# Altium schematic symbol library fastic_readout.SCHLIB: 61 symbols
Pins are listed as number, name and electrical type; pins without a type are passive.

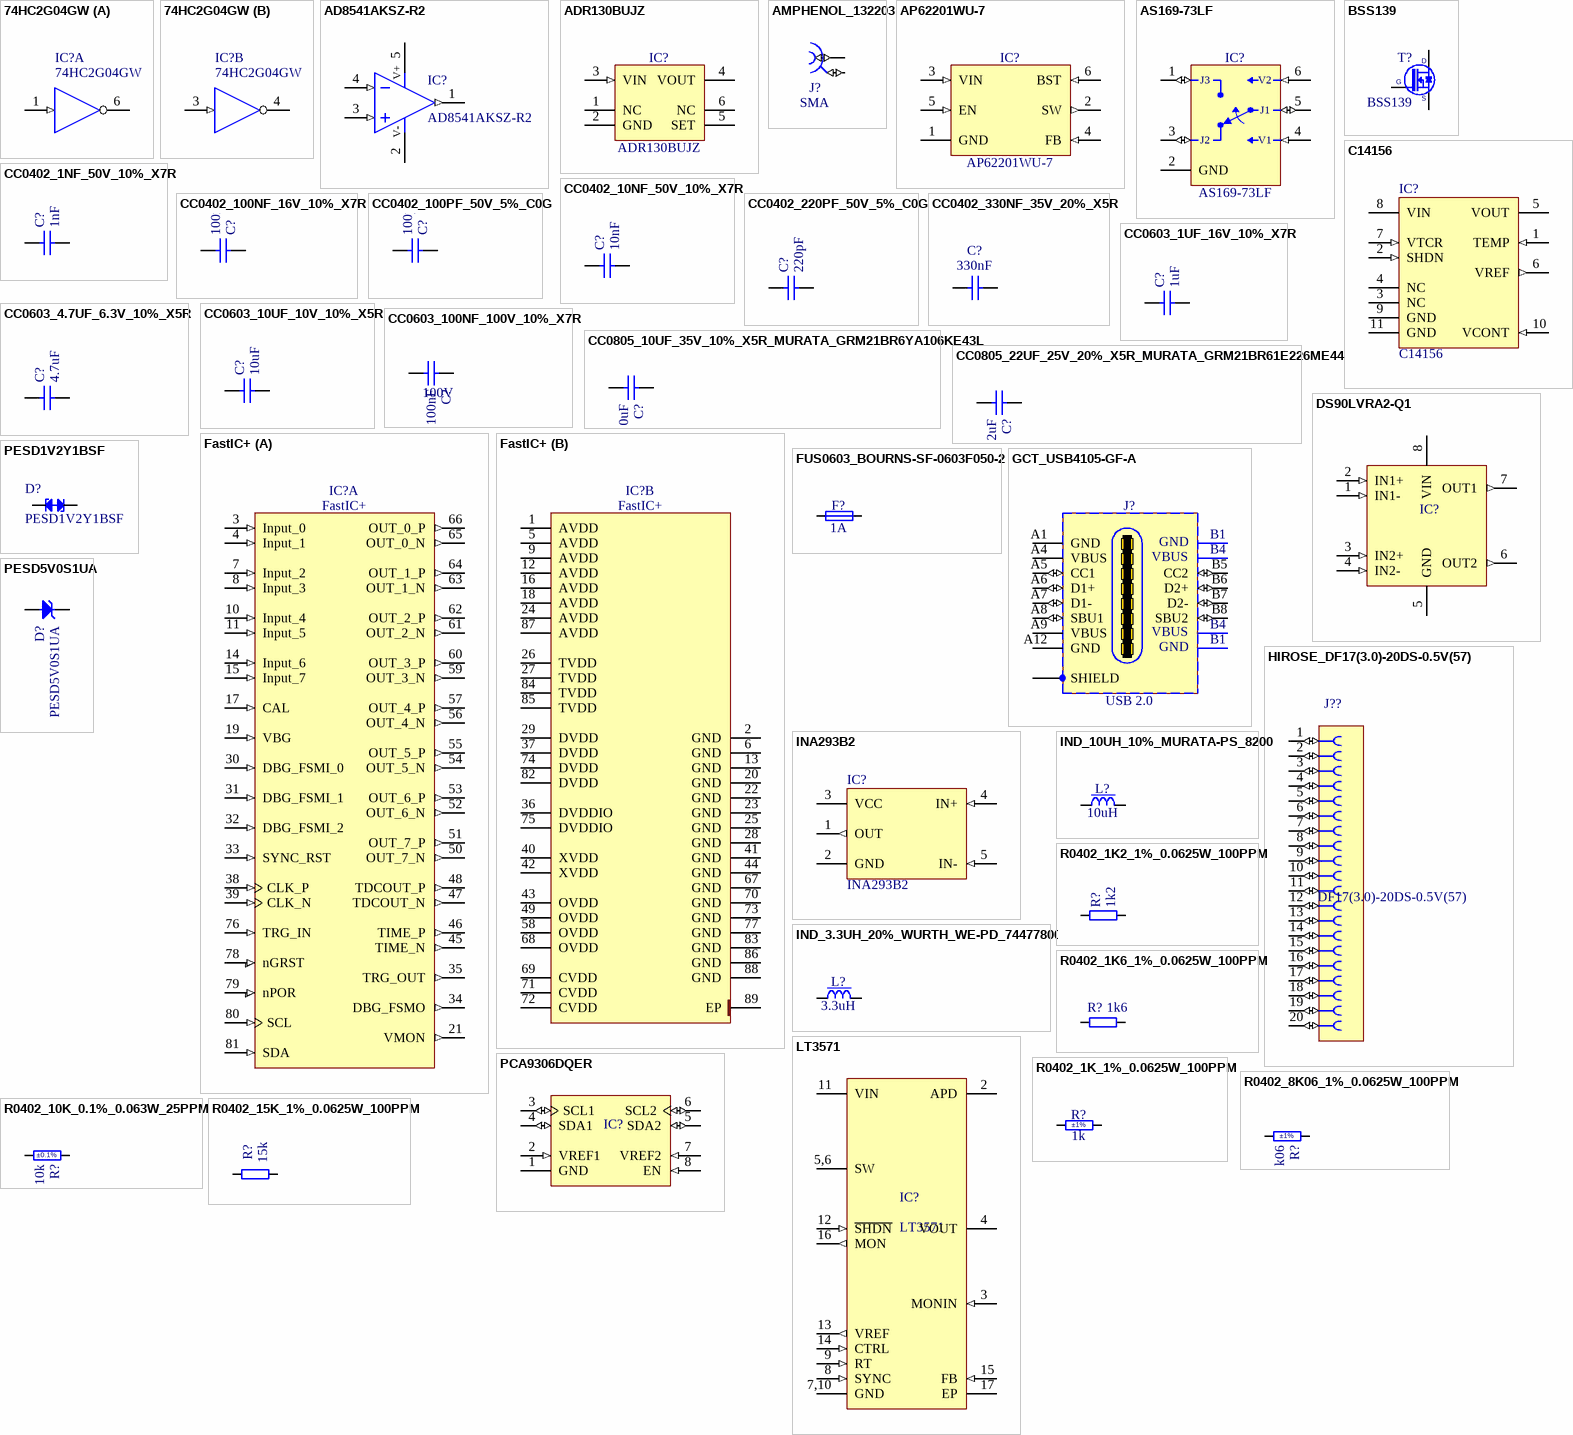
[diagram p0: symbols 74HC2G04GW to R0402_15K_1%_0.0625W_100PPM]

## 74HC2G04GW
designator IC?
Dual Inverter Buffer; Part Description: Dual inverter Gate; Manufacturer: NEXPERIA; PressFit: No; Bonding: No; Part Number: 74HC2G04GW; Component Kind: Standard; Component Type: Standard; Device: 74HC2G04GW; Footprint: SOT65P210X110-6N; PackageDescription: SOT363, SC-88, 0.65mm Pitch; 6 Pin, 1.25mm W X 2.00mm L X 1.10mm H body, IPC Medium Density; Manufacturer Part Number: 74HC2G04GW; Pin Count: 6; Case: SOT363; Mounted: Yes; Socket: No; SMD: Yes; Sense: No; ComponentHeight: 1.1mm; Author: CERN DEM HF; HelpURL: \\cern.ch\dfs\Applications\Altium\Datasheets\74HC2G04.pdf; CreateDate: 7/29/2022; LatestRevisionDate: 7/29/2022
footprint SOT65P210X110-6N
pins on every part: 2 GND (power) hidden to GND, 5 VCC (power) hidden to VCC
part A pins: 1 IN (in), 6 OUT (oc)
part B pins: 3 IN (in), 4 OUT (oc)

## AD8541AKSZ-R2
designator IC?
Operational Amplifier; Part Description: CMOS Rail-to-Rail General-Purpose Amplifier; Manufacturer: ANALOG DEVICES; PressFit: No; Bonding: No; Part Number: AD8541AKSZ-R2; Component Kind: Standard; Component Type: Standard; Device: AD8541AKSZ-R2; Footprint: SOT65P210X110-5N; PackageDescription: SOT353, SC70-5, SOT, 0.65mm Pitch; 5 Pin, 1.25mm W X 2.00mm L X 1.10mm H body, IPC Medium Density; Manufacturer Part Number: AD8541AKS; Pin Count: 5; Case: SOT353; Mounted: Yes; Socket: No; SMD: Yes; Sense: No; ComponentHeight: 1.1mm; Author: CERN DEM JLC; HelpURL: \\cern.ch\dfs\Applications\Altium\Datasheets\AD8541AKSZ-R2.pdf; CreateDate: 4/25/2012; LatestRevisionDate: 3/29/2022
footprint SOT65P210X110-5N
pins: 1 OUT (out), 2 V- (power), 3 IN+ (in), 4 IN- (in), 5 V+ (power)
1 alternate drawing of the same symbol

## ADR130BUJZ
designator IC?
±25ppm/°C, Precision Series Sub-Band Gap Voltage Reference; Part Description: 0.35% Accuracy, ±25ppm/°C, Precision Series Sub-Band Gap Voltage Reference; Manufacturer: ANALOG DEVICES; PressFit: No; Bonding: No; Part Number: ADR130BUJZ; Component Kind: Standard; Component Type: Standard; Device: ADR130BUJZ; Footprint: SOT95P280X100-6N; PackageDescription: SOT23, 0.95mm Pitch; 6 Pin, 1.625mm W X 2.90mm L X 1.00mm H body, IPC Medium Density; Manufacturer Part Number: ADR130BUJ; Pin Count: 6; Case: SOT23-6; Mounted: Yes; Socket: No; SMD: Yes; Sense: No; ComponentHeight: 1mm; HelpURL: \\cern.ch\dfs\Applications\Altium\Datasheets\ADR130BUJZ.pdf; Author: CERN DEM JLC; CreateDate: 28/10/2013; LatestRevisionDate: 04/04/2022
footprint SOT95P280X100-6N
pins: 1 NC, 2 GND (power), 3 VIN (in), 4 VOUT (power), 5 SET, 6 NC

## AMPHENOL_132203
designator J?, comment SMA
Part Number: AMPHENOL_132203; Part Description: 50 Ohms SMA Through Hole Right Angle PCB Jack; Manufacturer: AMPHENOL; Manufacturer Part Number: 132203; PressFit: No; Component Kind: Standard; Component Type: Standard; Footprint: AMPHENOL_132203; Pin Count: 5; Family: SMA; Mounted: Yes; Socket: No; SMD: No; Sense: No; Status: None; ComponentHeight: 10.44mm; HelpURL: \\cern.ch\dfs\Applications\Altium\Datasheets\AMPHENOL_132203.pdf; Author: CERN DEM MR; CreateDate: 10/6/2016; LatestRevisionDate: 10/6/2016
footprint AMPHENOL_132203
pins: 1 (io), 2 (io)

## AP62201WU-7
designator IC?
4.2V TO 18V INPUT, 2A LOW IQ SYNCHRONOUS BUCK CONVERTER; Manufacturer: DIODES INCORPORATED; PressFit: No; Bonding: No; Part Number: AP62201WU-7; Component Kind: Standard; Component Type: Standard; Device: AP62201WU-7; Footprint: SOT95P280X100-6N; PackageDescription: SOT23, 0.95mm Pitch; 6 Pin, 1.625mm W X 2.90mm L X 1.00mm H body, IPC Medium Density; Part Description: 4.2V To 18V Input, 2A Low Iq Synchronous Buck Converter; Manufacturer Part Number: AP62201WU; Pin Count: 6; Case: SOT23-6; Mounted: Yes; Socket: No; SMD: Yes; Sense: No; ComponentHeight: 1.1mm; HelpURL: \\cern.ch\dfs\Applications\Altium\Datasheets\AP6220x.pdf; Author: CERN DEM HF; CreateDate: 1/7/2022; LatestRevisionDate: 3/21/2022
footprint SOT95P2d80X100-6N
pins: 1 GND (power), 2 SW (out), 3 VIN (in), 4 FB (in), 5 EN (in), 6 BST (in)

## AS169-73LF
designator IC?
PHEMT GaAs IC SPDT Switch 300 KHz-2.5 GHz; Part Description: PHEMT GaAs IC SPDT Switch 300 KHz–2.5 GHz; Manufacturer: SKYWORKS; PressFit: No; Bonding: No; Part Number: AS169-73LF; Component Kind: Standard; Component Type: Standard; Device: AS169-73LF; Footprint: SOT95P270X145-6N; PackageDescription: SOT, 0.95mm Pitch; 6 Pin,1.55mm W X 2.90mm L X 1.45mm H body, IPC Medium Density; Manufacturer Part Number: AS169-73LF; Pin Count: 6; Case: SOT23-6; Mounted: Yes; Socket: No; SMD: Yes; Sense: No; ComponentHeight: 1.45mm; Author: CERN DEM BC; HelpURL: \\cern.ch\dfs\Applications\Altium\Datasheets\AS169-73LF.pdf; CreateDate: 15/09/2020; LatestRevisionDate: 15/09/2020
footprint SOT95P270X145-6N
pins: 1 J3 (io), 2 GND (power), 3 J2 (io), 4 V1 (in), 5 J1 (io), 6 V2 (in)

## BSS139
designator T?
N-CHANNEL MOSFET WITH DIODE; Part Description: 250V, 30mA N-Channel  SIPMOS® Small-Signal-Transistor; Manufacturer: INFINEON; PressFit: No; Bonding: No; Part Number: BSS139; Component Kind: Standard; Component Type: Standard; Device: BSS139; Footprint: SOT95P240X110-3N; PackageDescription: SOT23, 0.95mm Pitch; 3 Pin, 1.40mm W X 3.00mm L X 1.10mm H body, IPC Medium Density; Manufacturer Part Number: BSS139; Pin Count: 3; Case: SOT23-3; Mounted: Yes; Socket: No; SMD: Yes; Sense: No; ComponentHeight: 1.1mm; HelpURL: \\cern.ch\dfs\Applications\Altium\Datasheets\BSS139.pdf; Author: CERN DEM JLC; CreateDate: 9/23/2014; LatestRevisionDate: 9/23/2014
footprint SOT95P240X110-3N
pins: 1 G, 2 S, 3 D

## C14156
designator IC?  (no BOM)
pins: 1 TEMP (in), 2 SHDN (in), 3 NC (hiz), 4 NC (hiz), 5 VOUT (power), 6 VREF (out), 7 VTCR (in), 8 VIN (power), 9 GND (power), 10 VCONT (in), 11 GND (power)

## CC0402_1NF_50V_10%_X7R
designator C?, comment 1nF
Non-polarised capacitor; Part Number: CC0402_1NF_50V_10%_X7R; Part Description: SMD Multilayer Chip Ceramic Capacitor; Manufacturer: GENERIC; Manufacturer1 Part Number: 223858715623; Voltage: 50V; TC: X7R; Tolerance: ±10%; Component Kind: Standard; Component Type: Standard; Footprint: CAPC1005X55N; Pin Count: 2; Value: 1nF; Status: Not Recommended; Manufacturer Part Number: CC0402_1NF_50V_10%_X7R; Case: 0402; Mounted: Yes; Socket: No; SMD: Yes; Sense: No; Manufacturer1 Example: PHYCOMP; Manufacturer1 ComponentHeight: 0.55mm; HelpURL: \\cern.ch\dfs\Applications\Altium\Datasheets\CC0402_X7R_PHYCOMP.pdf; Author: CERN DEM JLC; CreateDate: 03/12/2007; LatestRevisionDate: 03/12/2007
footprint CAPC1005X55N
pins: 1, 2

## CC0402_10NF_50V_10%_X7R
designator C?, comment 10nF
Non-polarised capacitor; Part Number: CC0402_10NF_50V_10%_X7R; Part Description: SMD Multilayer Chip Ceramic Capacitor; Manufacturer: GENERIC; Manufacturer1 Part Number: GRM155R71H103KA88D; Voltage: 50V; TC: X7R; Tolerance: ±10%; Component Kind: Standard; Component Type: Standard; Footprint: CAPC1005X55N; Pin Count: 2; Value: 10nF; Status: None; Manufacturer Part Number: CC0402_10NF_50V_10%_X7R; Case: 0402; Mounted: Yes; Socket: No; SMD: Yes; Sense: No; Manufacturer1 Example: MURATA; Manufacturer1 ComponentHeight: 0.55mm; HelpURL: \\cern.ch\dfs\Applications\Altium\Datasheets\CC0402_X7R_MURATA_GRM.pdf; Author: CERN DEM MR; CreateDate: 08/01/2016; LatestRevisionDate: 08/01/2016
footprint CAPC1005X55N
pins: 1, 2

## CC0402_100NF_16V_10%_X7R
designator C?, comment 100nF
Non-polarised capacitor; Part Number: CC0402_100NF_16V_10%_X7R; Part Description: SMD Multilayer Chip Ceramic Capacitor; Manufacturer: GENERIC; Manufacturer1 Part Number: GRM155R71C104KA88D; Voltage: 16V; TC: X7R; Tolerance: ±10%; Component Kind: Standard; Component Type: Standard; Footprint: CAPC1005X55N; Pin Count: 2; Value: 100nF; Status: Not Recommended; Manufacturer Part Number: CC0402_100NF_16V_10%_X7R; Case: 0402; Mounted: Yes; Socket: No; SMD: Yes; Sense: No; Manufacturer1 Example: MURATA; Manufacturer1 ComponentHeight: 0.55mm; HelpURL: \\cern.ch\dfs\Applications\Altium\Datasheets\CC0402_X7R_MURATA_GRM.pdf; Author: CERN DEM JLC; CreateDate: 05/12/2013; LatestRevisionDate: 03/12/2007
footprint CAPC1005X55N
pins: 1, 2

## CC0402_100PF_50V_5%_C0G
designator C?, comment 100pF
Non-polarised capacitor; Part Number: CC0402_100PF_50V_5%_C0G; Part Description: SMD Multilayer Chip Ceramic Capacitor; Manufacturer: GENERIC; Manufacturer1 Part Number: C0402C101J5GACTU; Voltage: 50V; TC: C0G/NP0; Tolerance: ±5%; Component Kind: Standard; Component Type: Standard; Footprint: CAPC1005X55N; Pin Count: 2; Value: 100pF; Status: Preferred; Manufacturer Part Number: CC0402_100PF_50V_5%_C0G; Case: 0402; Mounted: Yes; Socket: No; SMD: Yes; Sense: No; Manufacturer1 Example: KEMET; Manufacturer1 ComponentHeight: 0.55mm; HelpURL: \\cern.ch\dfs\Applications\Altium\Datasheets\CC0402_C0G_KEMET_(Commercial Grade).pdf; Author: CERN DEM JLC; CreateDate: 12/3/2007; LatestRevisionDate: 4/22/2015
footprint CAPC1005X55N
pins: 1, 2

## CC0402_220PF_50V_5%_C0G
designator C?, comment 220pF
Non-polarised capacitor; Part Number: CC0402_220PF_50V_5%_C0G; Part Description: SMD Multilayer Chip Ceramic Capacitor; Manufacturer: GENERIC; Manufacturer1 Part Number: C0402C221J5GACTU; Voltage: 50V; TC: C0G/NP0; Tolerance: ±5%; Component Kind: Standard; Component Type: Standard; Footprint: CAPC1005X55N; Pin Count: 2; Value: 220pF; Status: Preferred; Manufacturer Part Number: CC0402_220PF_50V_5%_C0G; Case: 0402; Mounted: Yes; Socket: No; SMD: Yes; Sense: No; Manufacturer1 Example: KEMET; Manufacturer1 ComponentHeight: 0.55mm; HelpURL: \\cern.ch\dfs\Applications\Altium\Datasheets\CC0402_C0G_KEMET_(Commercial Grade).pdf; Author: CERN DEM JLC; CreateDate: 03/12/2007; LatestRevisionDate: 22/04/2015
footprint CAPC1005X55N
pins: 1, 2

## CC0402_330NF_35V_20%_X5R
designator C?, comment 330nF
Non-polarised capacitor; Part Number: CC0402_330NF_35V_20%_X5R; Part Description: SMD Multilayer Chip Ceramic Capacitor; Manufacturer: GENERIC; Manufacturer1 Part Number: C1005X5R1V334M050; Voltage: 35V; TC: X5R; Tolerance: ±20%; Component Kind: Standard; Component Type: Standard; Footprint: CAPC1005X55N; Pin Count: 2; Value: 330nF; Status: Preferred; Manufacturer Part Number: CC0402_330NF_35V_20%_X5R; Case: 0402; Mounted: Yes; Socket: No; SMD: Yes; Sense: No; Manufacturer1 Example: TDK; Manufacturer1 ComponentHeight: 0.55mm; HelpURL: \\cern.ch\dfs\Applications\Altium\Datasheets\CC0402_X5R_TDK_C.pdf; Author: CERN DEM MR; CreateDate: 9/13/2016; LatestRevisionDate: 9/13/2016
footprint CAPC1005X55N
pins: 1, 2

## CC0603_1UF_16V_10%_X7R
designator C?, comment 1uF
Non-polarised capacitor; Part Number: CC0603_1UF_16V_10%_X7R; Part Description: SMD Multilayer Chip Ceramic Capacitor; Manufacturer: GENERIC; Manufacturer1 Part Number: 223878615663; Voltage: 16V; TC: X7R; Tolerance: ±10%; Component Kind: Standard; Component Type: Standard; Footprint: CAPC1608X87N; Pin Count: 2; Value: 1uF; Status: None; Manufacturer Part Number: CC0603_1UF_16V_10%_X7R; Case: 0603; Mounted: Yes; Socket: No; SMD: Yes; Sense: No; Manufacturer1 Example: YAGEO PHYCOMP; Manufacturer1 ComponentHeight: 0.9mm; HelpURL: \\cern.ch\dfs\Applications\Altium\Datasheets\CC0603_X7R_PHYCOMP.pdf; Author: CERN DEM JLC; CreateDate: 03/12/2007; LatestRevisionDate: 17/04/2015
footprint CAPC1608X87N
pins: 1, 2

## CC0603_4.7UF_6.3V_10%_X5R
designator C?, comment 4.7uF
Non-polarised capacitor; Part Number: CC0603_4.7UF_6.3V_10%_X5R; Part Description: SMD Multilayer Chip Ceramic Capacitor; Manufacturer: GENERIC; Manufacturer1 Part Number: 225520613672; Voltage: 6.3V; TC: X5R; Tolerance: ±10%; Component Kind: Standard; Component Type: Standard; Footprint: CAPC1608X87N; Pin Count: 2; Value: 4.7uF; Status: Preferred; Manufacturer Part Number: CC0603_4.7UF_6.3V_10%_X5R; Case: 0603; Mounted: Yes; Socket: No; SMD: Yes; Sense: No; Manufacturer1 Example: PHYCOMP; Manufacturer1 ComponentHeight: 0.87mm; HelpURL: \\cern.ch\dfs\Applications\Altium\Datasheets\CC0805_X5R_PHYCOMP_HC.pdf; Author: CERN DEM JLC; CreateDate: 03/12/2007; LatestRevisionDate: 03/12/2007
footprint CAPC1608X87N
pins: 1, 2

## CC0603_10UF_10V_10%_X5R
designator C?, comment 10uF
Non-polarised capacitor; Part Number: CC0603_10UF_10V_10%_X5R; Part Description: SMD Multilayer Chip Ceramic Capacitor; Manufacturer: GENERIC; Manufacturer1 Part Number: GRM188R61A106KE69D; Voltage: 10V; TC: X5R; Tolerance: ±10%; Component Kind: Standard; Component Type: Standard; Footprint: CAPC1608X80N; Pin Count: 2; Value: 10uF; Status: None; Manufacturer Part Number: CC0603_10UF_10V_10%_X5R; Case: 0603; Mounted: Yes; Socket: No; SMD: Yes; Sense: No; Manufacturer1 Example: MURATA; Manufacturer1 ComponentHeight: 0.8mm; HelpURL: \\cern.ch\dfs\Applications\Altium\Datasheets\CC0603_MURATA_GRM188R61A106KE69D.pdf; Author: CERN DEM JLC; CreateDate: 31/01/2017; LatestRevisionDate: 31/01/2017
footprint CAPC1608X80N
pins: 1, 2

## CC0603_100NF_100V_10%_X7R
designator C?, comment 100nF  Voltage: 100V
Non-polarised capacitor; Part Number: CC0603_100NF_100V_10%_X7R; Part Description: SMD Multilayer Chip Ceramic Capacitor; Manufacturer: GENERIC; Manufacturer1 Part Number: GRM188R72A104KA35D; TC: X7R; Tolerance: ±10%; Component Kind: Standard; Component Type: Standard; Footprint: CAPC1608X90N; Pin Count: 2; Value: 100nF; Status: None; Manufacturer Part Number: CC0603_100NF_100V_10%_X7R; Case: 0603; Mounted: Yes; Socket: No; SMD: Yes; Sense: No; Manufacturer1 Example: MURATA; Manufacturer1 ComponentHeight: 0.9mm; HelpURL: \\cern.ch\dfs\Applications\Altium\Datasheets\CC0603_MURATA_GRM188R72A104KA35D.pdf; Author: CERN DEM JLC; CreateDate: 11/12/2013; LatestRevisionDate: 11/12/2013
footprint CAPC1608X90N
pins: 1, 2

## CC0805_10UF_35V_10%_X5R_MURATA_GRM21BR6YA106KE43L
designator C?, comment 10uF
Non-polarised capacitor; Part Number: CC0805_10UF_35V_10%_X5R_MURATA_GRM21BR6YA106KE43L; Part Description: Chip Multilayer Ceramic Capacitor for General Purpose; Manufacturer: MURATA; Manufacturer Part Number: GRM21BR6YA106KE43; Voltage: 35V; TC: X5R; Tolerance: ±10%; Component Kind: Standard; Component Type: Standard; Footprint: CAPC2012X145N; Pin Count: 2; Value: 10uF; Status: Not Recommended; Case: 0805; Mounted: Yes; Socket: No; SMD: Yes; Sense: No; ComponentHeight: 1.45mm; HelpURL: \\cern.ch\dfs\Applications\Altium\Datasheets\CC0805_MURATA_GRM21BR6YA106KE43L.pdf; Author: CERN DEM BC; CreateDate: 3/24/2020; LatestRevisionDate: 3/24/2020
footprint CAPC2012X145N
pins: 1, 2

## CC0805_22UF_25V_20%_X5R_MURATA_GRM21BR61E226ME44
designator C?, comment 22uF
Non-polarised capacitor; Part Number: CC0805_22UF_25V_20%_X5R_MURATA_GRM21BR61E226ME44; Part Description: Chip Multilayer Ceramic Capacitor for General Purpose; Manufacturer: MURATA; Manufacturer Part Number: GRM21BR61E226ME44; Voltage: 25V; TC: X5R; Tolerance: ±20%; Component Kind: Standard; Component Type: Standard; Footprint: CAPC2013X145N; Pin Count: 2; Value: 22uF; Status: Not Recommended; Case: 0805; Mounted: Yes; Socket: No; SMD: Yes; Sense: No; ComponentHeight: 1.45mm; HelpURL: \\cern.ch\dfs\Applications\Altium\Datasheets\CC0805_MURATA_GRM21BR61E226ME44.pdf; Author: CERN DEM BC; CreateDate: 10/6/2020; LatestRevisionDate: 10/6/2020
footprint CAPC2013X145N
pins: 1, 2

## DS90LVRA2-Q1
designator IC?
footprint DS90LVRA2-Q1
pins: 1 IN1- (in), 2 IN1+ (in), 3 IN2+ (in), 4 IN2- (in), 5 GND (power), 6 OUT2 (out), 7 OUT1 (out), 8 VIN (power)

## FastIC+
designator IC?
Part Description: FastIC+ ASIC. Fast Integrated Circuit for  Readout of High-Performance Detectors with Embedded TDC; Manufacturer: CERN; PressFit: No; Bonding: No; Part Number: FastIC+; Component Kind: Standard; Component Type: Standard; Device: FastIC+; Footprint: QFN40P1000X1000X85-89N-S760; PackageDescription: QFN, 0.40mm Pitch, Square; 89 Pin, 10.00mm L X 10.00mm W X 0.85mm H body (w/Thermal Tab 7.6 X 7.60mm), IPC Medium Density; Manufacturer Part Number: FastIC+; Pin Count: 89; Case: QFN89; Mounted: Yes; Socket: No; SMD: Yes; Sense: No; ComponentHeight: 0.85mm; Author: CERN DEM HF; HelpURL: \\cern.ch\dfs\Applications\Altium\Datasheets\FastIC+.pdf; ComponentLink1URL: \\cern.ch\dfs\Applications\Altium\Datasheets\FastIC+_Package.pdf; ComponentLink1Description: Package Drawing; CreateDate: 14/12/2023; LatestRevisionDate: 14/12/2023
footprint QFN40P1000X1000X85-89N-S760
part A pins: 3 Input_0 (in), 4 Input_1 (in), 7 Input_2 (in), 8 Input_3 (in), 10 Input_4 (in), 11 Input_5 (in), 14 Input_6 (in), 15 Input_7 (in), 17 CAL (in), 19 VBG (in), 21 VMON (out), 30 DBG_FSMI_0 (in), 31 DBG_FSMI_1 (in), 32 DBG_FSMI_2 (in), 33 SYNC_RST (in), 34 DBG_FSMO (out), 35 TRG_OUT (out), 38 CLK_P (in), 39 CLK_N (in), 45 TIME_N (out), 46 TIME_P (out), 47 TDCOUT_N (out), 48 TDCOUT_P (out), 50 OUT_7_N (out), 51 OUT_7_P (out), 52 OUT_6_N (out), 53 OUT_6_P (out), 54 OUT_5_N (out), 55 OUT_5_P (out), 56 OUT_4_N (out), 57 OUT_4_P (out), 59 OUT_3_N (out), 60 OUT_3_P (out), 61 OUT_2_N (out), 62 OUT_2_P (out), 63 OUT_1_N (out), 64 OUT_1_P (out), 65 OUT_0_N (out), 66 OUT_0_P (out), 76 TRG_IN (in), 78 nGRST (in), 79 nPOR (in), 80 SCL (in), 81 SDA (in)
part B pins: 1 AVDD (power), 2 GND (power), 5 AVDD (power), 6 GND (power), 9 AVDD (power), 12 AVDD (power), 13 GND (power), 16 AVDD (power), 18 AVDD (power), 20 GND (power), 22 GND (power), 23 GND (power), 24 AVDD (power), 25 GND (power), 26 TVDD (power), 27 TVDD (power), 28 GND (power), 29 DVDD (power), 36 DVDDIO (power), 37 DVDD (power), 40 XVDD (power), 41 GND (power), 42 XVDD (power), 43 OVDD (power), 44 GND (power), 49 OVDD (power), 58 OVDD (power), 67 GND (power), 68 OVDD (power), 69 CVDD (power), 70 GND (power), 71 CVDD (power), 72 CVDD (power), 73 GND (power), 74 DVDD (power), 75 DVDDIO (power), 77 GND (power), 82 DVDD (power), 83 GND (power), 84 TVDD (power), 85 TVDD (power), 86 GND (power), 87 AVDD (power), 88 GND (power), 89 EP (power)

## FUS0603_BOURNS-SF-0603F050-2
designator F?, comment 1A
Fuse; Part Number: FUS0603_BOURNS-SF-0603F050-2; Part Description: Fast Acting Thin Film Chip Fuse for Overcurrent Protection, SinglFuse™ SF-0603F  Series; Manufacturer: BOURNS; Manufacturer Part Number: SF-0603F050-2; PressFit: No; Value: 500mA-50V; Component Kind: Standard; Component Type: Standard; Footprint: FUSC_BOURNS_SF-0603F; Pin Count: 2; Case: 0603; PackageDescription: Chip Fuse, 2-Leads, Body 1.6mm x 0.8mm, IPC Medium Density; Family: Fuse; Mounted: Yes; Socket: No; SMD: Yes; Sense: No; ComponentHeight: 0.55mm; HelpURL: \\cern.ch\dfs\Applications\Altium\Datasheets\FUSC_BOURNS_SF-0603F.pdf; Author: CERN DEM JLC; CreateDate: 2/1/2017; LatestRevisionDate: 2/1/2017
footprint FUSC_BOURNS_SF-0603F
pins: 1, 2

## GCT_USB4105-GF-A
designator J?, comment USB 2.0
2x8 Pin + 1 Shield  USB Type C Receptacle; Part Number: GCT_USB4105-GF-A; Part Description: USB 2.0 Type C Receptacle 16 Contacts, SMD, horizontal; Manufacturer: GCT; Manufacturer Part Number: USB4105-GF-A; PressFit: No; Component Kind: Standard; Component Type: Standard; Footprint: GCT_USB4105-GF-A; Pin Count: 20; Family: USB 2.0; Mounted: Yes; Socket: No; SMD: Yes; Sense: No; Status: None; ComponentHeight: 3.31mm; HelpURL: \\cern.ch\dfs\Applications\Altium\Datasheets\GCT_USB4105-GF-A.pdf; Author: CERN DEM HF; CreateDate: 10/12/2023; LatestRevisionDate: 10/12/2023
footprint GCT_USB4105-GF-A
pins: A1 GND (power), A4 VBUS (power), A5 CC1 (io), A6 D1+ (io), A7 D1- (io), A8 SBU1 (io), A9 VBUS (power), A12 GND (power), B5 CC2 (io), B6 D2+ (io), B7 D2- (io), B8 SBU2 (io), SHIELD (power)
text: B1; B4

## HIROSE_DF17(3.0)-20DS-0.5V(57)
designator J??, comment Manufacturer Part Number: DF17(3.0)-20DS-0.5V(57)  (hidden comment: Socket 20)
Connector 20 Female; Part Number: HIROSE_DF17(3.0)-20DS-0.5V(57); Part Description: 20 Contacts, Pitch 0.5mm, Surface Mount Board to Board Receptacle, DF17 Series; Manufacturer: HIROSE (HRS); PressFit: No; Component Kind: Standard; Component Type: Standard; Footprint: HIROSE_DF17(3.0)-20DS-0.5V; Pin Count: 20; Family: Socket 20; Mounted: Yes; Socket: No; SMD: Yes; Sense: No; Status: None; ComponentHeight: 3.65mm; HelpURL: \\cern.ch\dfs\Applications\Altium\Datasheets\HIROSE_DF17(3.0)-20DS-0.5V.pdf; ComponentLink1URL: \\cern.ch\dfs\Applications\Altium\Datasheets\HIROSE_DF17_Catalog.pdf; ComponentLink1Description: Catalog; Author: CERN DEM BC; CreateDate: 15/09/2020; LatestRevisionDate: 15/09/2020
footprint HIROSE_DF17(3.0)-20DS-0.5V
pins: 1 (io), 2 (io), 3 (io), 4 (io), 5 (io), 6 (io), 7 (io), 8 (io), 9 (io), 10 (io), 11 (io), 12 (io), 13 (io), 14 (io), 15 (io), 16 (io), 17 (io), 18 (io), 19 (io), 20 (io)
1 alternate drawing of the same symbol

## INA293B2
designator IC?
pins: 1 OUT (out), 2 GND (power), 3 VCC (power), 4 IN+ (in), 5 IN- (in)

## IND_3.3UH_20%_WURTH_WE-PD_744778003
designator L?, comment 3.3uH
Inductor With Core; Part Number: IND_3.3UH_20%_WURTH_WE-PD_744778003; Part Description: Shielded Power Inductor (WE-PD Series); Manufacturer: WURTH ELEKTRONIK; Manufacturer Part Number: 744778003; Power: 3.1A; Resistance: 0.024R; Tolerance: ±20%; Component Kind: Standard; Component Type: Standard; Footprint: IND_WURTH_WE-PD_7332(METAL); Pin Count: 2; Value: 3.3uH; Mounted: Yes; Socket: No; SMD: Yes; Sense: No; ComponentHeight: 3.4mm; HelpURL: \\cern.ch\dfs\Applications\Altium\Datasheets\IND_WURTH_WE-PD_744778003.pdf; Author: CERN DEM JLC; CreateDate: 1/21/2013; LatestRevisionDate: 1/21/2013
footprint IND_WURTH_WE-PD_7332(METAL)
pins: 1, 2

## IND_10UH_10%_MURATA-PS_8200
designator L?, comment 10uH
Inductor With Core; Part Number: IND_10UH_10%_MURATA-PS_8200; Part Description: Miniature Surface Mount Power Inductor (8200 Series); Manufacturer: MURATA POWER SOLUTIONS; Manufacturer Part Number: 82103C; Power: 500mA; Resistance: 0.4R; Tolerance: ±10%; Component Kind: Standard; Component Type: Standard; Footprint: IND_MURATA-PS_8200; Pin Count: 2; Value: 10uH; Mounted: Yes; Socket: No; SMD: Yes; Sense: No; ComponentHeight: 2.3mm; HelpURL: \\cern.ch\dfs\Applications\Altium\Datasheets\IND_MURATA-PS_8200.pdf; Author: CERN DEM JLC; CreateDate: 7/21/2014; LatestRevisionDate: 7/21/2014
footprint IND_MURATA-PS_8200
pins: 1, 2

## LT3571
designator IC?
footprint QFN50P300X300X80-17N-S145 (QFN,0.50mm Pitch, Square; 4 pin X 4 Pin, 3mm X 3mm X 0.80mm H Body (w/Thermal Tab 1.45 X 1.45mm),  IPC Medium Density); pin to pad 5,6>5+6 7,10>7+10
pins: 2 APD (power), 3 MONIN (in), 4 VOUT (power), 5,6 SW (power), 7,10 GND (power), 8 SYNC (in), 9 RT (in), 11 VIN (power), 12 ~{SHDN} (in), 13 VREF (out), 14 CTRL (in), 15 FB (in), 16 MON (out), 17 EP (power)

## PCA9306DQER
designator IC?
footprint SON35P100X140X40-8N (SON, 0.35mm pitch, 8 pin, 1.4mm X 1mm X 0.4mm H body,  IPC Medium Density)
pins: 1 GND (power) "I2C-bus SDA", 2 VREF1 (in) "Receive Signal", 3 SCL1 (io) "Transmit Signal", 4 SDA1 (io) "Negative Supply", 5 SDA2 (io) "Transmit Signal", 6 SCL2 (io) "Receive Signal", 7 VREF2 (in) "I2C-bus SCL", 8 EN (in) "Positive Supply Voltage"

## PESD1V2Y1BSF
designator D?
footprint SOD962-2
pins: 1 C, 2 C

## PESD5V0S1UA
designator D?
Transient Voltage Suppressor Diode (Uni-Directional); Part Description: Unidirectional ESD Protection for Transient Voltage Suppression; Manufacturer: NXP SEMICONDUCTORS; Voltage: 5V; Power: 890W; PressFit: No; Bonding: No; Part Number: PESD5V0S1UA; Component Kind: Standard; Component Type: Standard; Device: PESD5V0S1UA; Footprint: SOD2512X110N; PackageDescription: Small Outline Diode (SOD-323), 1.70mm W X 1.25mm L X 1.10mm H body,  IPC Medium Density; Manufacturer Part Number: PESD5V0S1UA; Pin Count: 2; Case: SOD323; Mounted: Yes; Socket: No; SMD: Yes; Sense: No; ComponentHeight: 1.1mm; HelpURL: \\cern.ch\dfs\Applications\Altium\Datasheets\PESD5V0S1UA.pdf; Author: CERN DEM JLC; CreateDate: 8/28/2012; LatestRevisionDate: 9/18/2013
footprint SOD2512X110N
pins: 1 C, 2 A

## R0402_1K2_1%_0.0625W_100PPM
designator R?, comment 1k2
Resistor - 1%; Part Number: R0402_1K2_1%_0.0625W_100PPM; Part Description: General Purpose Thick Film Chip Resistor; Manufacturer: GENERIC; Manufacturer1 Part Number: 232270671202L; Power: 0.0625W; TC: ±100ppm/°C; PressFit: No; Component Kind: Standard; Component Type: Standard; Footprint: RESC1005X40N; Pin Count: 2; Value: 1k2; Status: Not Recommended; Tolerance: ±1%; Manufacturer Part Number: R0402_1K2_1%_0.0625W_100PPM; Case: 0402; Mounted: Yes; Sense: No; Socket: No; SMD: Yes; Manufacturer1 Example: YAGEO PHYCOMP; Manufacturer1 ComponentHeight: 0.4mm; HelpURL: \\cern.ch\dfs\Applications\Altium\Datasheets\R0402_Phycomp_RC0402.pdf; Author: CERN DEM JLC; CreateDate: 03/12/2007; LatestRevisionDate: 17/10/2012
footprint RESC1005X40N
pins: 1, 2

## R0402_1K6_1%_0.0625W_100PPM
designator R?, comment 1k6
Resistor - 1%; Part Number: R0402_1K6_1%_0.0625W_100PPM; Part Description: General Purpose Thick Film Chip Resistor; Manufacturer: GENERIC; Manufacturer1 Part Number: 232270671602L; Power: 0.0625W; TC: ±100ppm/°C; PressFit: No; Component Kind: Standard; Component Type: Standard; Footprint: RESC1005X40N; Pin Count: 2; Value: 1k6; Status: Not Recommended; Tolerance: ±1%; Manufacturer Part Number: R0402_1K6_1%_0.0625W_100PPM; Case: 0402; Mounted: Yes; Sense: No; Socket: No; SMD: Yes; Manufacturer1 Example: YAGEO PHYCOMP; Manufacturer1 ComponentHeight: 0.4mm; HelpURL: \\cern.ch\dfs\Applications\Altium\Datasheets\R0402_Phycomp_RC0402.pdf; Author: CERN DEM JLC; CreateDate: 03/12/2007; LatestRevisionDate: 17/10/2012
footprint RESC1005X40N
pins: 1, 2

## R0402_1K_1%_0.0625W_100PPM
designator R?, comment 1k  Tolerance: ±1%
Resistor - 1%; Part Number: R0402_1K_1%_0.0625W_100PPM; Part Description: General Purpose Thick Film Chip Resistor; Manufacturer: GENERIC; Manufacturer1 Part Number: 232270671002L; Power: 0.0625W; TC: ±100ppm/°C; PressFit: No; Component Kind: Standard; Component Type: Standard; Footprint: RESC1005X40N; Pin Count: 2; Value: 1k; Status: Not Recommended; Manufacturer Part Number: R0402_1K_1%_0.0625W_100PPM; Case: 0402; Mounted: Yes; Sense: No; Socket: No; SMD: Yes; Manufacturer1 Example: YAGEO PHYCOMP; Manufacturer1 ComponentHeight: 0.4mm; HelpURL: \\cern.ch\dfs\Applications\Altium\Datasheets\R0402_Phycomp_RC0402.pdf; Author: CERN DEM JLC; CreateDate: 12/3/2007; LatestRevisionDate: 10/17/2012
footprint RESC1005X40N
pins: 1, 2

## R0402_8K06_1%_0.0625W_100PPM
designator R?, comment 8k06  Tolerance: ±1%
Resistor - 1%; Part Number: R0402_8K06_1%_0.0625W_100PPM; Part Description: General Purpose Thick Film Chip Resistor; Manufacturer: GENERIC; Manufacturer1 Part Number: RC0402FR-078K06L; Power: 0.0625W; TC: ±100ppm/°C; PressFit: No; Component Kind: Standard; Component Type: Standard; Footprint: RESC1005X40N; Pin Count: 2; Value: 8k06; Status: Preferred; Manufacturer Part Number: R0402_8K06_1%_0.0625W_100PPM; Case: 0402; Mounted: Yes; Sense: No; Socket: No; SMD: Yes; Manufacturer1 Example: YAGEO PHYCOMP; Manufacturer1 ComponentHeight: 0.4mm; HelpURL: \\cern.ch\dfs\Applications\Altium\Datasheets\R0402_YAGEO_RC_L.pdf; Author: CERN DEM BC; CreateDate: 3/16/2021; LatestRevisionDate: 3/16/2021
footprint RESC1005X40N
pins: 1, 2

## R0402_10K_0.1%_0.063W_25PPM
designator R?, comment 10k  Tolerance: ±0.1%
Resistor - 0.1%; Part Number: R0402_10K_0.1%_0.063W_25PPM; Part Description: Thin Film Precision Resistor; Manufacturer: GENERIC; Manufacturer1 Part Number: CPF0402B10KE1; Power: 0.063W; TC: ±25ppm/°C; PressFit: No; Component Kind: Standard; Component Type: Standard; Footprint: RESC1005X35N; Pin Count: 2; Value: 10k; Status: Not Recommended; Manufacturer Part Number: R0402_10K_0.1%_0.063W_25PPM; Case: 0402; Mounted: Yes; Sense: No; Socket: No; SMD: Yes; Manufacturer1 Example: TE CONNECTIVITY; Manufacturer1 ComponentHeight: 0.35mm; HelpURL: \\cern.ch\dfs\Applications\Altium\Datasheets\R0402_TYCO_CPF.pdf; Author: CERN DEM JMW; CreateDate: 9/22/2015; LatestRevisionDate: 9/22/2015
footprint RESC1005X35N
pins: 1, 2

## R0402_15K_1%_0.0625W_100PPM
designator R?, comment 15k
Resistor - 1%; Part Number: R0402_15K_1%_0.0625W_100PPM; Part Description: General Purpose Thick Film Chip Resistor; Manufacturer: GENERIC; Manufacturer1 Part Number: CRCW040215K0FK; Power: 0.0625W; TC: ±100ppm/°C; PressFit: No; Component Kind: Standard; Component Type: Standard; Footprint: RESC1005X40N; Pin Count: 2; Value: 15k; Status: Preferred; Tolerance: ±1%; Manufacturer Part Number: R0402_15K_1%_0.0625W_100PPM; Case: 0402; Mounted: Yes; Sense: No; Socket: No; SMD: Yes; Manufacturer1 Example: VISHAY; Manufacturer1 ComponentHeight: 0.4mm; HelpURL: \\cern.ch\dfs\Applications\Altium\Datasheets\R0402_VISHAY_CRCW e3.pdf; Author: CERN DEM JMW; CreateDate: 06/07/2015; LatestRevisionDate: 06/07/2015
footprint RESC1005X40N
pins: 1, 2

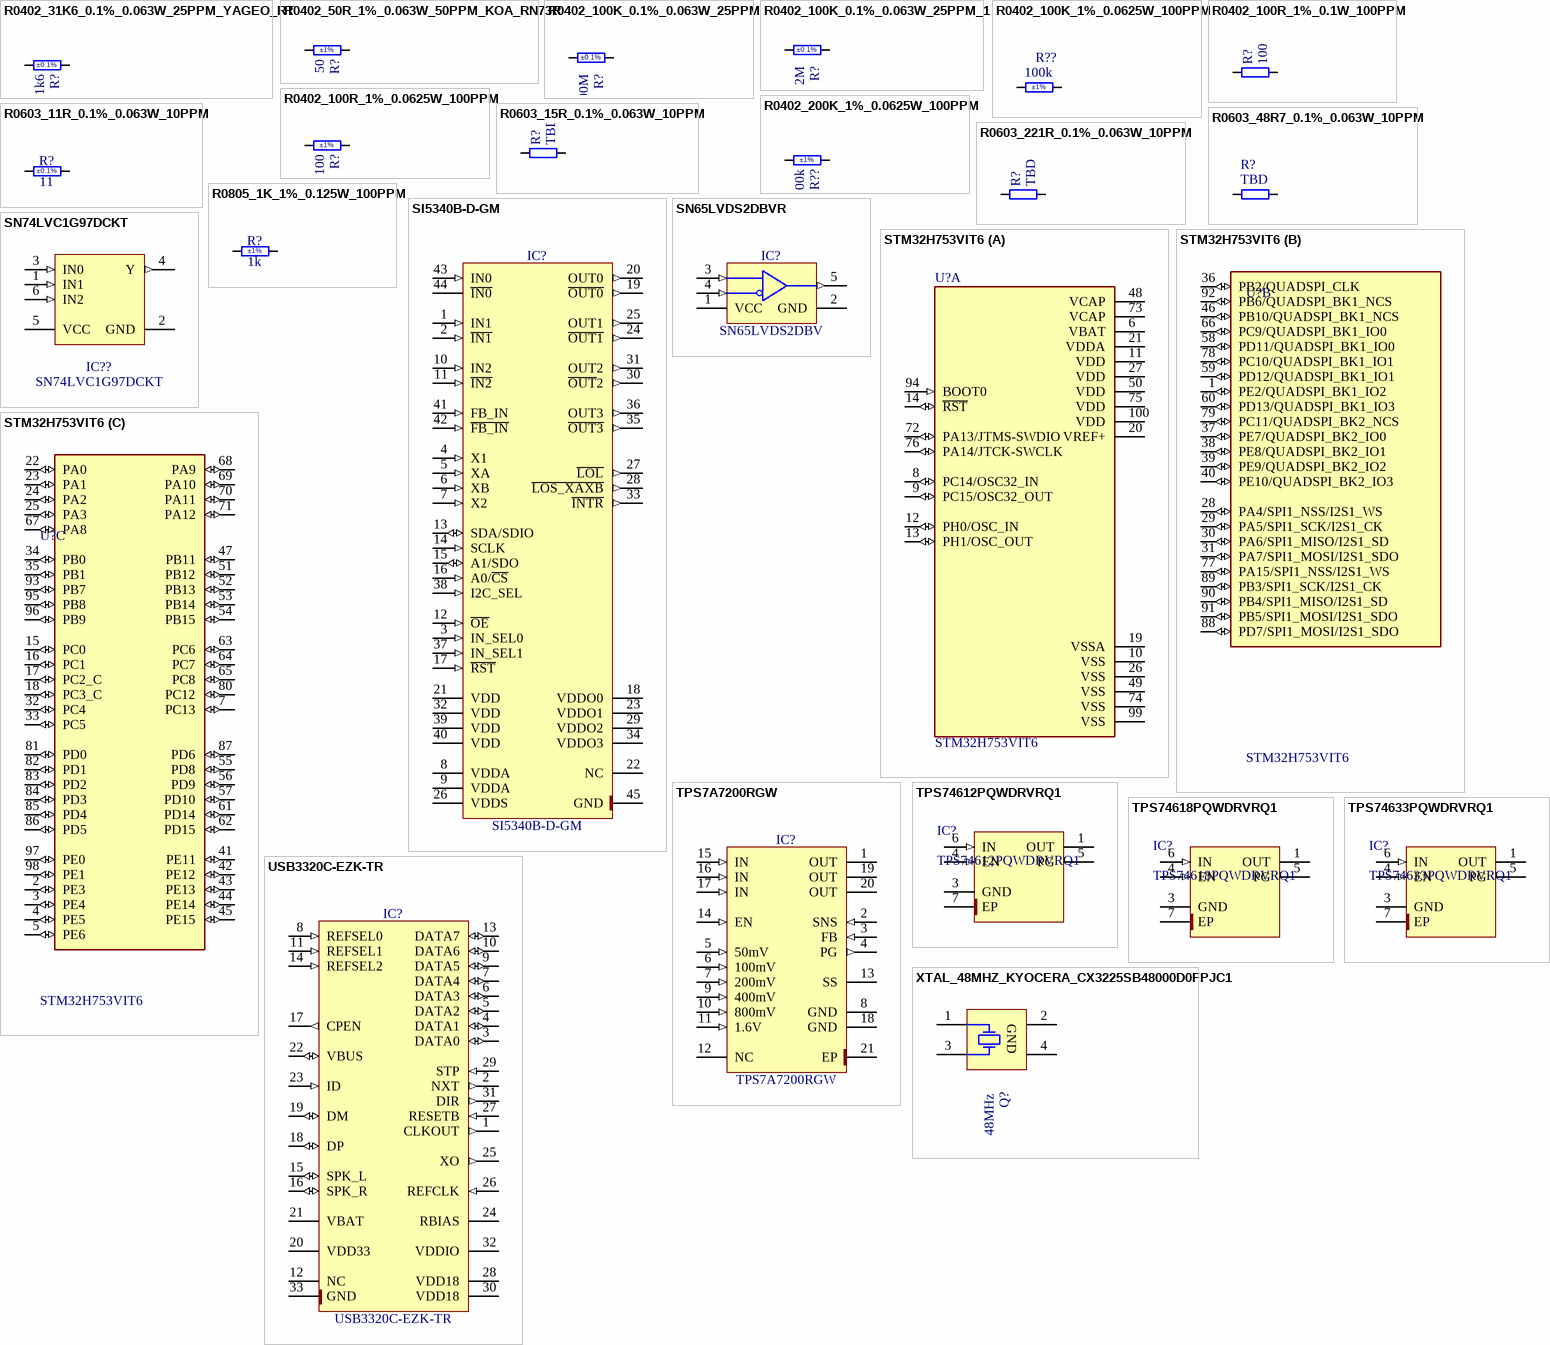
[diagram p1: symbols R0402_31K6_0.1%_0.063W_25PPM_YAGEO_RT to XTAL_48MHZ_KYOCERA_CX3225SB48000D0FPJC1]

## R0402_31K6_0.1%_0.063W_25PPM_YAGEO_RT
designator R?, comment 31k6  Tolerance: ±0.1%
Resistor - 0.1%; Part Number: R0402_31K6_0.1%_0.063W_25PPM_YAGEO_RT; Part Description: Thin Film Chip Resistor; Manufacturer: YAGEO; Manufacturer Part Number: RT0402BRD0731K6L; Power: 0.063W; TC: ±25ppm/°C; Voltage: 50V; PressFit: No; Component Kind: Standard; Component Type: Standard; Footprint: RESC1005X35N; Pin Count: 2; Value: 31k6; Status: Not Recommended; Case: 0402; Mounted: Yes; Sense: No; Socket: No; SMD: Yes; ComponentHeight: 0.35mm; HelpURL: \\cern.ch\dfs\Applications\Altium\Datasheets\R0402_YAGEO_RT.pdf; Author: CERN DEM BC; CreateDate: 7/30/2020; LatestRevisionDate: 7/30/2020
footprint RESC1005X35N
pins: 1, 2

## R0402_50R_1%_0.063W_50PPM_KOA_RN73R
designator R?, comment 50  Tolerance: ±1%
Resistor - 1%; Part Number: R0402_50R_1%_0.063W_50PPM_KOA_RN73R; Part Description: Precision Thin (Metal) Film Flat Chip Resistor; Manufacturer: KOA; Manufacturer Part Number: RN73R1ETTP50R0F50; Power: 0.063W; TC: ±50ppm/°C; PressFit: No; Component Kind: Standard; Component Type: Standard; Footprint: RESC1005X40N; Pin Count: 2; Value: 50; Status: Not Recommended; Case: 0402; Mounted: Yes; Sense: No; Socket: No; SMD: Yes; ComponentHeight: 0.4mm; HelpURL: \\cern.ch\dfs\Applications\Altium\Datasheets\R0402_KOA_RN73R.pdf; Author: CERN DEM BC; CreateDate: 11/11/2020; LatestRevisionDate: 11/11/2020
footprint RESC1005X40N
pins: 1, 2

## R0402_100K_0.1%_0.063W_25PPM
designator R?, comment 100M  Tolerance: ±0.1%
Resistor - 0.1%; Part Number: R0402_100K_0.1%_0.063W_25PPM; Part Description: Thin Film Precision Resistor; Manufacturer: GENERIC; Manufacturer1 Part Number: CPF0402B100KE1; Value: 100k; Power: 0.063W; TC: ±25ppm/°C; PressFit: No; Component Kind: Standard; Component Type: Standard; Footprint: RESC1005X35N; Pin Count: 2; Status: Not Recommended; Manufacturer Part Number: R0402_100K_0.1%_0.063W_25PPM; Case: 0402; Mounted: Yes; Sense: No; Socket: No; SMD: Yes; Manufacturer1 Example: TE CONNECTIVITY; Manufacturer1 ComponentHeight: 0.35mm; HelpURL: \\cern.ch\dfs\Applications\Altium\Datasheets\R0402_TYCO_CPF.pdf; Author: CERN DEM JMW; CreateDate: 9/22/2015; LatestRevisionDate: 9/22/2015
footprint RESC1005X35N
pins: 1, 2

## R0402_100K_0.1%_0.063W_25PPM_1
designator R?, comment 2M  Tolerance: ±0.1%
Resistor - 0.1%; Part Number: R0402_100K_0.1%_0.063W_25PPM; Part Description: Thin Film Precision Resistor; Manufacturer: GENERIC; Manufacturer1 Part Number: CPF0402B100KE1; Value: 100k; Power: 0.063W; TC: ±25ppm/°C; PressFit: No; Component Kind: Standard; Component Type: Standard; Footprint: RESC1005X35N; Pin Count: 2; Status: Not Recommended; Manufacturer Part Number: R0402_100K_0.1%_0.063W_25PPM; Case: 0402; Mounted: Yes; Sense: No; Socket: No; SMD: Yes; Manufacturer1 Example: TE CONNECTIVITY; Manufacturer1 ComponentHeight: 0.35mm; HelpURL: \\cern.ch\dfs\Applications\Altium\Datasheets\R0402_TYCO_CPF.pdf; Author: CERN DEM JMW; CreateDate: 9/22/2015; LatestRevisionDate: 9/22/2015
footprint RESC1005X35N
pins: 1, 2

## R0402_100K_1%_0.0625W_100PPM
designator R??, comment 100k  Tolerance: ±1%
Resistor - 1%; Part Number: R0402_100K_1%_0.0625W_100PPM; Part Description: General Purpose Thick Film Chip Resistor; Manufacturer: GENERIC; Manufacturer1 Part Number: 232270671004L; Power: 0.0625W; TC: ±100ppm/°C; PressFit: No; Component Kind: Standard; Component Type: Standard; Footprint: RESC1005X40N; Pin Count: 2; Value: 100k; Status: Not Recommended; Manufacturer Part Number: R0402_100K_1%_0.0625W_100PPM; Case: 0402; Mounted: Yes; Sense: No; Socket: No; SMD: Yes; Manufacturer1 Example: YAGEO PHYCOMP; Manufacturer1 ComponentHeight: 0.4mm; HelpURL: \\cern.ch\dfs\Applications\Altium\Datasheets\R0402_Phycomp_RC0402.pdf; Author: CERN DEM JLC; CreateDate: 12/3/2007; LatestRevisionDate: 10/17/2012
footprint RESC1005X40N
pins: 1, 2

## R0402_100R_1%_0.1W_100PPM
designator R?, comment 100
Resistor - 1%; Part Number: R0402_100R_1%_0.1W_100PPM; Part Description: General Purpose Thick Film Chip Resistor; Manufacturer: GENERIC; Manufacturer Part Number: R0402_100R_1%_0.1W_100PPM_50V; Manufacturer1 Part Number: ERJ2RKF1000X; Power: 0.1W; TC: ±100ppm/°C; PressFit: No; Voltage: 50V; Component Kind: Standard; Component Type: Standard; Footprint: RESC1005X40N; Pin Count: 2; Value: 100; Status: Not Recommended; Tolerance: ±1%; Case: 0402; Mounted: Yes; Sense: No; Socket: No; SMD: Yes; Manufacturer1 Example: PANASONIC; Manufacturer1 ComponentHeight: 0.4mm; HelpURL: \\cern.ch\dfs\Applications\Altium\Datasheets\R0402_PANASONIC_ERJ2RK.pdf; Author: CERN DEM JLC; CreateDate: 12/12/2013; LatestRevisionDate: 03/03/2015
footprint RESC1005X40N
pins: 1, 2

## R0402_100R_1%_0.0625W_100PPM
designator R?, comment 100  Tolerance: ±1%
Resistor - 1%; Part Number: R0402_100R_1%_0.0625W_100PPM; Part Description: General Purpose Thick Film Chip Resistor; Manufacturer: GENERIC; Manufacturer1 Part Number: 232270671001L; Power: 0.0625W; TC: ±100ppm/°C; PressFit: No; Component Kind: Standard; Component Type: Standard; Footprint: RESC1005X40N; Pin Count: 2; Value: 100; Status: Not Recommended; Manufacturer Part Number: R0402_100R_1%_0.0625W_100PPM; Case: 0402; Mounted: Yes; Sense: No; Socket: No; SMD: Yes; Manufacturer1 Example: YAGEO PHYCOMP; Manufacturer1 ComponentHeight: 0.4mm; HelpURL: \\cern.ch\dfs\Applications\Altium\Datasheets\R0402_Phycomp_RC0402.pdf; Author: CERN DEM JLC; CreateDate: 12/3/2007; LatestRevisionDate: 10/17/2012
footprint RESC1005X40N
pins: 1, 2

## R0402_200K_1%_0.0625W_100PPM
designator R??, comment 200k  Tolerance: ±1%
Resistor - 1%; Part Number: R0402_200K_1%_0.0625W_100PPM; Part Description: General Purpose Thick Film Chip Resistor; Manufacturer: GENERIC; Manufacturer1 Part Number: 232270672004L; Power: 0.0625W; TC: ±100ppm/°C; PressFit: No; Component Kind: Standard; Component Type: Standard; Footprint: RESC1005X40N; Pin Count: 2; Value: 200k; Status: Not Recommended; Manufacturer Part Number: R0402_200K_1%_0.0625W_100PPM; Case: 0402; Mounted: Yes; Sense: No; Socket: No; SMD: Yes; Manufacturer1 Example: YAGEO PHYCOMP; Manufacturer1 ComponentHeight: 0.4mm; HelpURL: \\cern.ch\dfs\Applications\Altium\Datasheets\R0402_Phycomp_RC0402.pdf; Author: CERN DEM JLC; CreateDate: 12/3/2007; LatestRevisionDate: 10/17/2012
footprint RESC1005X40N
pins: 1, 2

## R0603_11R_0.1%_0.063W_10PPM
designator R?, comment 11  Tolerance: ±0.1%
Resistor - 0.1%; Part Number: R0603_11R_0.1%_0.063W_10PPM; Part Description: Thin Film Chip Resistor; Manufacturer: GENERIC; Manufacturer1 Part Number: RN73C1J11RBTDF; Power: 0.063W; TC: ±10ppm; PressFit: No; Component Kind: Standard; Component Type: Standard; Footprint: RESC1608X55N; Pin Count: 2; Value: 11; Status: Not Recommended; Manufacturer Part Number: R0603_11R_0.1%_0.063W_10PPM; Case: 0603; Mounted: Yes; Sense: No; Socket: No; SMD: Yes; Manufacturer1 Example: TYCO HOLSWORTHY; Manufacturer1 ComponentHeight: 0.5mm; HelpURL: \\cern.ch\dfs\Applications\Altium\Datasheets\R0603_Tyco_RN73.pdf; Author: CERN DEM JLC; CreateDate: 12/3/2007; LatestRevisionDate: 3/13/2008
footprint RESC1608X55N
pins: 1, 2

## R0603_15R_0.1%_0.063W_10PPM
designator R?, comment TBD
Resistor - 0.1%; Part Number: R0603_15R_0.1%_0.063W_10PPM; Part Description: Thin Film Chip Resistor; Manufacturer: GENERIC; Manufacturer1 Part Number: RN73C1J15RBTDF; Value: 15; Power: 0.063W; TC: ±10ppm; PressFit: No; Tolerance: ±0.1%; Component Kind: Standard; Component Type: Standard; Footprint: RESC1608X55N; Pin Count: 2; Status: Not Recommended; Manufacturer Part Number: R0603_15R_0.1%_0.063W_10PPM; Case: 0603; Mounted: Yes; Sense: No; Socket: No; SMD: Yes; Manufacturer1 Example: TYCO HOLSWORTHY; Manufacturer1 ComponentHeight: 0.5mm; HelpURL: \\cern.ch\dfs\Applications\Altium\Datasheets\R0603_Tyco_RN73.pdf; Author: CERN DEM JLC; CreateDate: 03/12/2007; LatestRevisionDate: 13/03/2008
footprint RESC1608X55N
pins: 1, 2

## R0603_48R7_0.1%_0.063W_10PPM
designator R?, comment TBD
Resistor - 0.1%; Part Number: R0603_48R7_0.1%_0.063W_10PPM; Part Description: Thin Film Chip Resistor; Manufacturer: GENERIC; Manufacturer1 Part Number: RN73C1J48R7BTDF; Value: 48R7; Power: 0.063W; TC: ±10ppm; PressFit: No; Tolerance: ±0.1%; Component Kind: Standard; Component Type: Standard; Footprint: RESC1608X55N; Pin Count: 2; Status: Not Recommended; Manufacturer Part Number: R0603_48R7_0.1%_0.063W_10PPM; Case: 0603; Mounted: Yes; Sense: No; Socket: No; SMD: Yes; Manufacturer1 Example: TYCO HOLSWORTHY; Manufacturer1 ComponentHeight: 0.5mm; HelpURL: \\cern.ch\dfs\Applications\Altium\Datasheets\R0603_Tyco_RN73.pdf; Author: CERN DEM JLC; CreateDate: 03/12/2007; LatestRevisionDate: 13/03/2008
footprint RESC1608X55N
pins: 1, 2

## R0603_221R_0.1%_0.063W_10PPM
designator R?, comment TBD
Resistor - 0.1%; Part Number: R0603_221R_0.1%_0.063W_10PPM; Part Description: Thin Film Chip Resistor; Manufacturer: GENERIC; Manufacturer1 Part Number: RN73C1J221RBTDF; Value: 221; Power: 0.063W; TC: ±10ppm; PressFit: No; Tolerance: ±0.1%; Component Kind: Standard; Component Type: Standard; Footprint: RESC1608X55N; Pin Count: 2; Status: Not Recommended; Manufacturer Part Number: R0603_221R_0.1%_0.063W_10PPM; Case: 0603; Mounted: Yes; Sense: No; Socket: No; SMD: Yes; Manufacturer1 Example: TYCO HOLSWORTHY; Manufacturer1 ComponentHeight: 0.5mm; HelpURL: \\cern.ch\dfs\Applications\Altium\Datasheets\R0603_Tyco_RN73.pdf; Author: CERN DEM JLC; CreateDate: 03/12/2007; LatestRevisionDate: 13/03/2008
footprint RESC1608X55N
pins: 1, 2

## R0805_1K_1%_0.125W_100PPM
designator R?, comment 1k  Tolerance: ±1%
Resistor - 1%; Part Number: R0805_1K_1%_0.125W_100PPM; Part Description: General Purpose Thick Film Chip Resistor; Manufacturer: GENERIC; Manufacturer1 Part Number: NRC10F1001TRF; Power: 0.125W; TC: ±100ppm/°C; PressFit: No; Component Kind: Standard; Component Type: Standard; Footprint: RESC2012X60N; Pin Count: 2; Value: 1k; Status: Preferred; Manufacturer Part Number: R0805_1K_1%_0.125W_100PPM; Case: 0805; Mounted: Yes; Sense: No; Socket: No; SMD: Yes; Manufacturer1 Example: NIC COMPONENT; Manufacturer1 ComponentHeight: 0.6mm; HelpURL: \\cern.ch\dfs\Applications\Altium\Datasheets\R0805_NIC_NRC.pdf; Author: CERN DEM JLC; CreateDate: 12/3/2007; LatestRevisionDate: 3/13/2008
footprint RESC2012X60N
pins: 1, 2

## SI5340B-D-GM
designator IC?
Low-Jitter, 4-Output, Any-Frequency, Any-Output Clock Generator; Manufacturer: SILICON LABS; PressFit: No; Bonding: No; Part Number: SI5340B-D-GM; Component Kind: Standard; Component Type: Standard; Device: SI5340B-D-GM; Footprint: QFN50P700X700X90-45N-S530; PackageDescription: QFN, 0.50mm Pitch, Square; 44 Pin, 7.00mm L X 7.00mm W X 0.90mm H body (w/Thermal Tab 5.30 X 5.30mm), IPC Medium Density; Part Description: Low-Jitter, 4-Output, Any-Frequency, Any-Output Clock Generator; Manufacturer Part Number: SI5340B-D-GM; Pin Count: 45; Case: QFN44; Mounted: Yes; Socket: No; SMD: Yes; Sense: No; ComponentHeight: 0.9mm; Author: CERN DEM JLC; HelpURL: \\cern.ch\dfs\Applications\Altium\Datasheets\SI5340B-D-GM.pdf; CreateDate: 12/14/2017; LatestRevisionDate: 12/14/2017
footprint QFN50P700X700X90-45N-S530
pins: 1 IN1 (in), 2 ~{IN1} (in), 3 IN_SEL0 (in), 4 X1 (in), 5 XA (in), 6 XB (in), 7 X2 (in), 8 VDDA (power), 9 VDDA (power), 10 IN2 (in), 11 ~{IN2} (in), 12 ~{OE} (in), 13 SDA/SDIO (io), 14 SCLK (in), 15 A1/SDO (io), 16 A0/~{CS} (in), 17 ~{RST} (in), 18 VDDO0 (power), 19 ~{OUT0} (out), 20 OUT0 (out), 21 VDD (power), 22 NC, 23 VDDO1 (power), 24 ~{OUT1} (out), 25 OUT1 (out), 26 VDDS (power), 27 ~{LOL} (out), 28 ~{LOS_XAXB} (out), 29 VDDO2 (power), 30 ~{OUT}2 (out), 31 OUT2 (out), 32 VDD (power), 33 ~{INTR} (out), 34 VDDO3 (power), 35 ~{OUT3} (out), 36 OUT3 (out), 37 IN_SEL1 (in), 38 I2C_SEL (in), 39 VDD (power), 40 VDD (power), 41 FB_IN (in), 42 ~{FB_IN} (in), 43 IN0 (in), 44 ~{IN0} (oc), 45 GND (power) "Exposed Pad"

## SN65LVDS2DBVR
designator IC?, comment SN65LVDS2DBV
High-Speed Differential Line Receiver; Part Number: SN65LVDS2DBVR; Manufacturer: TEXAS INSTRUMENTS; PressFit: No; Bonding: No; Component Kind: Standard; Component Type: Standard; Device: SN65LVDS2DBV; Footprint: SOT95P280X145-5N; PackageDescription: SOT, 0.95mm Pitch; 5 Pin, 1.60mm W X 2.90mm L X 1.45mm H body, IPC Medium Density; Part Description: High-Speed Differential Line Receiver; Manufacturer Part Number: SN65LVDS2DBV; Pin Count: 5; Case: SOT23-5; Mounted: Yes; Socket: No; SMD: Yes; Sense: No; ComponentHeight: 1.45mm; Author: CERN DEM JLC; HelpURL: \\cern.ch\dfs\Applications\Altium\Datasheets\SN65LVDS2DBVR.pdf; CreateDate: 3/3/2011; LatestRevisionDate: 3/3/2023
footprint SOT95P280X145-5N
pins: 1 VCC (power), 2 GND (power), 3 A (in), 4 B (in), 5 R (out)

## SN74LVC1G97DCKT
designator IC??
Configurable Multiple-Function Gate; Manufacturer: TEXAS INSTRUMENTS; PressFit: No; Bonding: No; Part Number: SN74LVC1G97DCKT; Component Kind: Standard; Component Type: Standard; Device: SN74LVC1G97DCKT; Footprint: SOT65P210X110-6N; PackageDescription: SOT363, SC70-6, 0.65mm Pitch; 6 pin, 1.25mm W X 2.00mm L X 1.10mm H body, IPC Medium Density; Part Description: Configurable Multiple-Function Gate; Manufacturer Part Number: SN74LVC1G97DCK; Pin Count: 6; Case: SOT363; Mounted: Yes; Socket: No; SMD: Yes; Sense: No; ComponentHeight: 1.1mm; Author: CERN DEM JLC; HelpURL: \\cern.ch\dfs\Applications\Altium\Datasheets\SN74LVC1G97DCKT.pdf; CreateDate: 2/27/2013; LatestRevisionDate: 2/27/2013
footprint SOT65P210X110-6N
pins: 1 IN1 (in), 2 GND (power), 3 IN0 (in), 4 Y (out), 5 VCC (power), 6 IN2 (in)

## STM32H753VIT6
designator U?
ARMÂ® CortexÂ®-M7 STM32H7 Microcontroller IC 32-Bit 480MHz 2MB _2M x 8_ FLASH 100-LQFP _14x14_; MF: STMicroelectronics; MP: STM32H753VIT6; Availability: Unavailable; SnapEDA_Link: https://www.snapeda.com/parts/STM32H753VIT6/STMicroelectronics/view-part/2770314/?ref=snap; Value: *; Package: LQFP-100 STMicroelectronics; Price: None
footprint QFP50P1600X1600X160-100N
part A pins: 6 VBAT (power), 8 PC14/OSC32_IN (io), 9 PC15/OSC32_OUT (io), 10 VSS (power), 11 VDD (power), 12 PH0/OSC_IN (io), 13 PH1/OSC_OUT (io), 14 ~{RST} (io), 19 VSSA (power), 20 VREF+ (power), 21 VDDA (power), 26 VSS (power), 27 VDD (power), 48 VCAP (power), 49 VSS (power), 50 VDD (power), 72 PA13/JTMS-SWDIO (io), 73 VCAP (power), 74 VSS (power), 75 VDD (power), 76 PA14/JTCK-SWCLK (io), 94 BOOT0 (in), 99 VSS (power), 100 VDD (power)
part B pins: 1 PE2/QUADSPI_BK1_IO2 (io), 28 PA4/SPI1_NSS/I2S1_WS (io), 29 PA5/SPI1_SCK/I2S1_CK (io), 30 PA6/SPI1_MISO/I2S1_SD (io), 31 PA7/SPI1_MOSI/I2S1_SDO (io), 36 PB2/QUADSPI_CLK (io), 37 PE7/QUADSPI_BK2_IO0 (io), 38 PE8/QUADSPI_BK2_IO1 (io), 39 PE9/QUADSPI_BK2_IO2 (io), 40 PE10/QUADSPI_BK2_IO3 (io), 46 PB10/QUADSPI_BK1_NCS (io), 58 PD11/QUADSPI_BK1_IO0 (io), 59 PD12/QUADSPI_BK1_IO1 (io), 60 PD13/QUADSPI_BK1_IO3 (io), 66 PC9/QUADSPI_BK1_IO0 (io), 77 PA15/SPI1_NSS/I2S1_WS (io), 78 PC10/QUADSPI_BK1_IO1 (io), 79 PC11/QUADSPI_BK2_NCS (io), 88 PD7/SPI1_MOSI/I2S1_SDO (io), 89 PB3/SPI1_SCK/I2S1_CK (io), 90 PB4/SPI1_MISO/I2S1_SD (io), 91 PB5/SPI1_MOSI/I2S1_SDO (io), 92 PB6/QUADSPI_BK1_NCS (io)
part C pins: 2 PE3 (io), 3 PE4 (io), 4 PE5 (io), 5 PE6 (io), 7 PC13 (io), 15 PC0 (io), 16 PC1 (io), 17 PC2_C (io), 18 PC3_C (io), 22 PA0 (io), 23 PA1 (io), 24 PA2 (io), 25 PA3 (io), 32 PC4 (io), 33 PC5 (io), 34 PB0 (io), 35 PB1 (io), 41 PE11 (io), 42 PE12 (io), 43 PE13 (io), 44 PE14 (io), 45 PE15 (io), 47 PB11 (io), 51 PB12 (io), 52 PB13 (io), 53 PB14 (io), 54 PB15 (io), 55 PD8 (io), 56 PD9 (io), 57 PD10 (io), 61 PD14 (io), 62 PD15 (io), 63 PC6 (io), 64 PC7 (io), 65 PC8 (io), 67 PA8 (io), 68 PA9 (io), 69 PA10 (io), 70 PA11 (io), 71 PA12 (io), 80 PC12 (io), 81 PD0 (io), 82 PD1 (io), 83 PD2 (io), 84 PD3 (io), 85 PD4 (io), 86 PD5 (io), 87 PD6 (io), 93 PB7 (io), 95 PB8 (io), 96 PB9 (io), 97 PE0 (io), 98 PE1 (io)

## TPS7A7200RGW
designator IC?
2-A, Fast-Transient, Low-Dropout Voltage Regulator; Manufacturer: TEXAS INSTRUMENTS; PressFit: No; Bonding: No; Part Number: TPS7A7200RGW; Component Kind: Standard; Component Type: Standard; Device: TPS7A7200RGW; Footprint: QFN65P500X500X100-21N-S325; PackageDescription: QFN, 0.65mm Pitch, Square; 20 Pin, 5.00mm L X 5.00mm W X 1.00mm H body (w/Thermal Tab 3.25 X 3.25mm), IPC Medium Density; Part Description: 2-A, Fast-Transient, Low-Dropout Voltage Regulator; Manufacturer Part Number: TPS7A7200RGW; Pin Count: 21; Case: QFN20; Mounted: Yes; Socket: No; SMD: Yes; Sense: No; ComponentHeight: 1mm; HelpURL: \\cern.ch\dfs\Applications\Altium\Datasheets\TPS7A7200RGW.pdf; Author: CERN DEM MR; CreateDate: 17/03/2016; LatestRevisionDate: 17/03/2016
footprint QFN65P500X500X100-21N-S325
pins: 1 OUT (power), 2 SNS (in), 3 FB (in), 4 PG (out), 5 50mV (in), 6 100mV (in), 7 200mV (in), 8 GND (power), 9 400mV (in), 10 800mV (in), 11 1.6V (in), 12 NC, 13 SS, 14 EN (in), 15 IN (in), 16 IN (in), 17 IN (in), 18 GND (power), 19 OUT (power), 20 OUT (power), 21 EP (power)

## TPS74612PQWDRVRQ1
designator IC?
footprint TPS746
pins: 1 OUT (power), 3 GND (power), 4 EN (in), 5 PG, 6 IN (in), 7 EP (power)

## TPS74618PQWDRVRQ1
designator IC?
footprint TPS746
pins: 1 OUT (power), 3 GND (power), 4 EN (in), 5 PG, 6 IN (in), 7 EP (power)

## TPS74633PQWDRVRQ1
designator IC?
footprint TPS746
pins: 1 OUT (power), 3 GND (power), 4 EN (in), 5 PG, 6 IN (in), 7 EP (power)

## USB3320C-EZK-TR
designator IC?
Highly Integrated, Full Featured Hi-Speed USB 2.0 ULPI Transceiver; Manufacturer: MICROCHIP TECHNOLOGY; PressFit: No; Bonding: No; Part Number: USB3320C-EZK-TR; Component Kind: Standard; Component Type: Standard; Device: USB3320C-EZK-TR; Footprint: QFN50P500X500X100-33N-S340; PackageDescription: QFN, (MO-220-VHHD-2) 0.50mm Pitch, Square; 32 Pin, 5.00mm L X 5.00mm W X 1.00mm H body (w/Thermal Tab 3.40 X 3.40mm), IPC Medium Density; Part Description: Highly Integrated, Full Featured Hi-Speed USB 2.0 ULPI Transceiver; Manufacturer Part Number: USB3320C-EZK; Pin Count: 33; Case: QFN32; Mounted: Yes; Socket: No; SMD: Yes; Sense: No; ComponentHeight: 1mm; Author: CERN DEM JLC; HelpURL: \\cern.ch\dfs\Applications\Altium\Datasheets\USB3320C-EZK-TR.pdf; CreateDate: 7/22/2014; LatestRevisionDate: 6/2/2022
footprint QFN50P500X500X100-33N-S340
pins: 1 CLKOUT (out), 2 NXT (out), 3 DATA0 (io), 4 DATA1 (io), 5 DATA2 (io), 6 DATA3 (io), 7 DATA4 (io), 8 REFSEL0 (in), 9 DATA5 (io), 10 DATA6 (io), 11 REFSEL1 (in), 12 NC, 13 DATA7 (io), 14 REFSEL2 (in), 15 SPK_L (io), 16 SPK_R (io), 17 CPEN (out), 18 DP (io), 19 DM (io), 20 VDD33 (power), 21 VBAT (power), 22 VBUS (io), 23 ID (in), 24 RBIAS, 25 XO (out), 26 REFCLK (in), 27 RESETB (in), 28 VDD18 (power), 29 STP (in), 30 VDD18 (power), 31 DIR (out), 32 VDDIO (power), 33 GND (power)

## XTAL_48MHZ_KYOCERA_CX3225SB48000D0FPJC1
designator Q?, comment 48MHz
Crystal 4 pins 1=XTAL Control 2=GND3=XTAL 4=GND; Part Number: XTAL_48MHZ_KYOCERA_CX3225SB48000D0FPJC1; Part Description: Tolerance: ±10ppm, Stability: ±15ppm, 8pF, -40°C to +85°C, Surface Mount Crystal; Manufacturer: KYOCERA; Manufacturer Part Number: CX3225SB48000D0FPJC1; PressFit: No; Bonding: No; Component Kind: Standard; Component Type: Standard; Footprint: XTAL_KYOCERA_CX3225SB; PackageDescription: SMD Crystal Kyocera, 4 Pins, 2.50mm L X 3.20mm W X 0.6mm H; Value: 48MHz; Pin Count: 4; Mounted: Yes; Socket: No; SMD: Yes; Sense: No; ComponentHeight: 0.6mm; HelpURL: \\cern.ch\dfs\Applications\Altium\Datasheets\XTAL_KYOCERA_CX3225SB.pdf; Author: CERN DEM JLC; CreateDate: 6/5/2018; LatestRevisionDate: 6/5/2018
footprint XTAL_KYOCERA_CX3225SB
pins: 1 X, 2 GND (power), 3 X, 4 GND (power)